# EAGLE library part LA7042 (library LA7042)
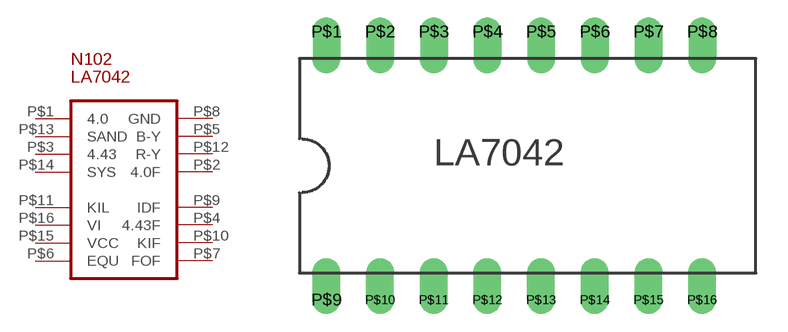
[diagram p0: symbol with the pads of LA7042; footprint LA7042]

Designator prefix -

## LA7042L  [LA7042]
P$1  4.0  in
P$2  4.0F
P$3  4.43  in
P$4  4.43F
P$5  B-Y
P$6  EQU  in
P$7  FOF
P$8  GND
P$9  IDF
P$10  KIF
P$11  KIL  in
P$12  R-Y
P$13  SAND  in
P$14  SYS  in
P$15  VCC  in
P$16  VI  in

## Footprint LA7042 (pad centres in mm)
drill 0.813 offset: P$1 -10.16,6.35; P$2 -7.62,6.35; P$3 -5.08,6.35; P$4 -2.54,6.35; P$5 0,6.35; P$6 2.54,6.35; P$7 5.08,6.35; P$8 7.62,6.35; P$9 -10.16,-6.35; P$10 -7.62,-6.35; P$11 -5.08,-6.35; P$12 -2.54,-6.35; P$13 0,-6.35; P$14 2.54,-6.35; P$15 5.08,-6.35; P$16 7.62,-6.35